# Altium footprint library TEST.PcbLib: 20 footprints (part 1 of 2)
Each footprint in its own frame and in the unit in brackets; x right, y up, seen from the top. Pads: shape width x height; smd on the part's side, far side on the other; paste and mask are expansions set on the pad; w line width, h text height; cw(c..) or ccw(c..) is an arc to the next point about the centre after c.
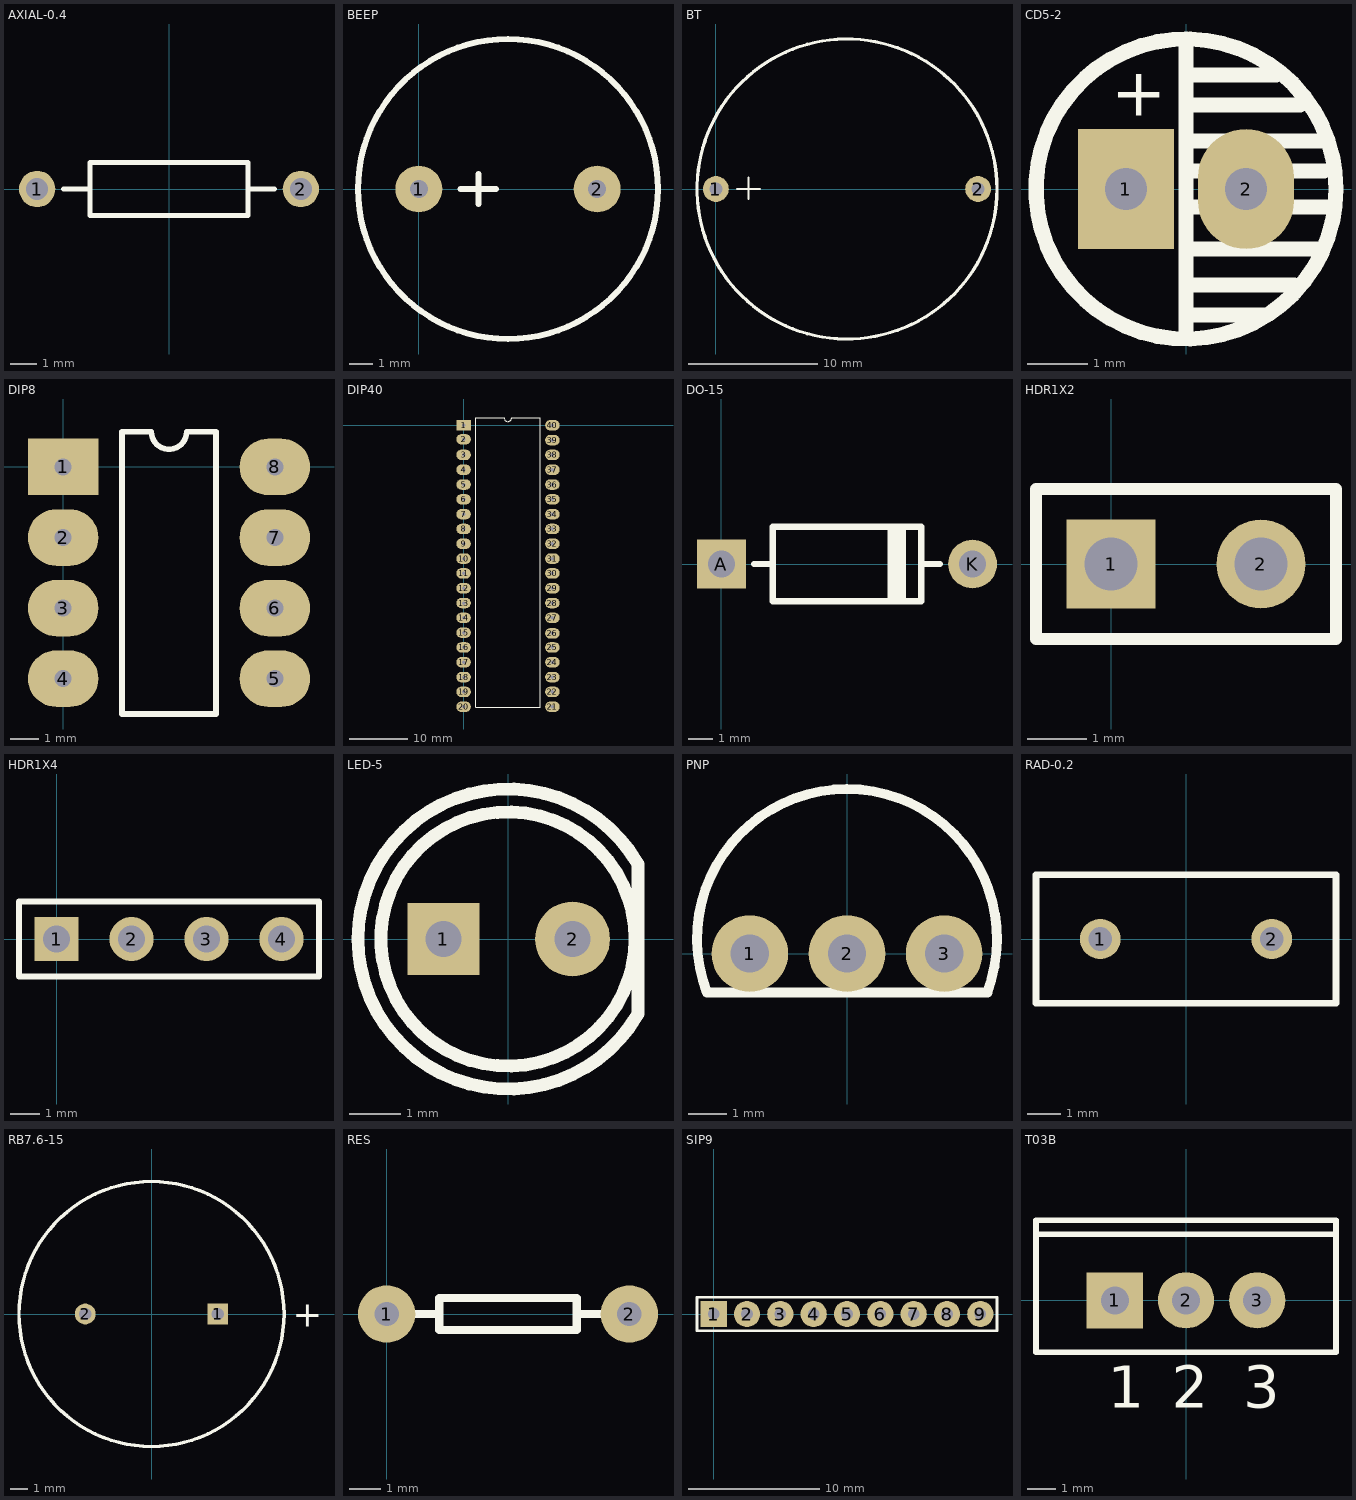
[diagram p0: the footprints below, top view; thin cyan lines are the x and y axes]

## AXIAL-0.4 [mm]
height 2.032
pads (2):
  round 1.4 hole 0.85: 1(-5.08,0) 2(5.08,0)
Top Overlay:
  lines w0.2: -4.064,0 -3.048,0 ; 3.048,0 4.064,0 ; -3.048,-1.016 -3.048,1.016 3.048,1.016 3.048,-1.016 -3.048,-1.016

## BEEP [mm]
height 4.96
pads (2):
  round 2 hole 0.762: 1(0,0) 2(7.62,0)
Top Overlay:
  circle w0.254: c3.81,0 r6.411
  lines w0.254: 1.778,0 3.302,0 ; 2.54,-0.635 2.54,0.635

## BT [mm]
height 4.96
pads (2):
  round 2 hole 1: 1(0,0) 2(20.32,0)
Top Overlay:
  circle w0.254: c10.16,0 r11.624
  lines w0.152: 1.651,0 3.429,0 ; 2.54,-0.762 2.54,0.889

## CD5-2 [mm]
pads (2):
  rect 1.6x2 hole 0.7: 1(-1,0)
  oval 1.6x2 hole 0.7: 2(1,0)
Top Overlay:
  circle w0.254: c0,0 r2.5
  lines w0.254: 0,-2.4 0,2.5 ; 0,-2.1 1.3,-2.1 ; 0,-1.6 1.8,-1.6 ; 0,-1 2.2,-1 ; 0,-0.3 2.4,-0.3 ; 0,1.4 1.9,1.4 ; 0,1.9 1.5,1.9 ; 0.1,0.3 2.3,0.3 ; 0.15,0.8 2.3,0.8
  text "+" at -1.246,1.221 h0.8

## DIP8 [mm]
height 4.96
pads (8):
  rect 2.5x2 hole 0.6: 1(0,0)
  oval 2.5x2 hole 0.6: 2(0,-2.5) 3(0,-5) 4(0,-7.5) 5(7.5,-7.5) 6(7.5,-5) 7(7.5,-2.5) 8(7.5,0)
Top Overlay:
  lines w0.2: 2.085,-8.75 2.085,1.25 3.125,1.25 ccw(c3.75,1.25) 4.375,1.25 5.415,1.25 5.415,-8.75 2.085,-8.75

## DIP40 [mm]
height 4.96
pads (40):
  rect 2.5x1.8 / inner round 1.524 / far side round 1.524 hole 0.6: 1(0,0)
  oval 2.5x1.8 / inner round 1.524 / far side round 1.524 hole 0.6: 2(0,-2.413) 3(0,-5.08) 4(0,-7.62) 5(0,-10.16) 6(0,-12.7) 7(0,-15.24) 8(0,-17.78) 9(0,-20.32) 10(0,-22.86) 11(0,-25.4) 12(0,-27.94) 13(0,-30.48) 14(0,-33.02) 15(0,-35.56) 16(0,-38.1) 17(0,-40.64) 18(0,-43.18) 19(0,-45.72) 20(0,-48.26) 21(15.24,-48.26) 22(15.24,-45.72) 23(15.24,-43.18) 24(15.24,-40.64) 25(15.24,-38.1) 26(15.24,-35.687) 27(15.24,-33.02) 28(15.24,-30.48) 29(15.24,-27.94) 30(15.24,-25.4) 31(15.24,-22.86) 32(15.24,-20.32) 33(15.24,-17.78) 34(15.24,-15.24) 35(15.24,-12.7) 36(15.24,-10.16) 37(15.24,-7.62) 38(15.24,-5.08) 39(15.24,-2.54) 40(15.24,0)
Top Overlay:
  lines w0.2: 2.085,-48.387 2.085,1.29 6.955,1.29 ccw(c7.6,1.29) 8.245,1.29 13.115,1.29 13.115,-48.387 2.085,-48.387

## DO-15 [mm]
pads (2):
  rect 2x2 hole 1.1: A(0,0)
  round 2 hole 1.1: K(10.3,0)
Top Overlay:
  lines w0.254: 1.34,0 2.102,0 ; 6.928,-1.524 6.928,1.524 ; 7.182,-1.524 7.182,1.524 ; 7.436,-1.524 7.436,1.524 ; 8.198,0 8.96,0 ; 2.102,-1.524 8.198,-1.524 8.198,1.524 2.102,1.524 2.102,-1.524
3D body: height 3.35, standoff -3.45, extent -0.343,-1.651 10.757,1.651

## HDR1X2 [mm]
pads (2):
  rect 1.5x1.5 hole 0.9: 1(0,0)
  round 1.5 hole 0.9: 2(2.54,0)
Top Overlay:
  lines w0.2: -1.27,-1.27 3.81,-1.27 3.81,1.27 -1.27,1.27 -1.27,-1.27

## HDR1X4 [mm]
pads (4):
  rect 1.5x1.5 hole 0.9: 1(0,0)
  round 1.5 hole 0.9: 2(2.54,0) 3(5.08,0) 4(7.62,0)
Top Overlay:
  lines w0.2: -1.27,-1.27 -1.27,1.27 8.89,1.27 8.89,-1.27 -1.27,-1.27

## LED-5 [mil]
pads (2):
  rect 56x56 hole 28: 1(-50,0)
  round 58 hole 28: 2(50,0)
Top Overlay:
  circle w10: c0,0 r98.43
  lines w10: 100.58,-58.07 cw(c0,0) 100.58,58.07 100.58,-58.07

## PNP [mm]
height 4.96
pads (3):
  round 2 hole 1: 1(-2.54,0) 2(0,0) 3(2.54,0)
Top Overlay:
  lines w0.254: 3.666,-1.009 ccw(c0,0.381) -3.664,-1.015 3.682,-1.015

## RAD-0.2 [mm]
pads (2):
  round 1.2 hole 0.7: 1(-2.54,0) 2(2.54,0)
Top Overlay:
  lines w0.2: -4.445,-1.905 -4.445,1.905 4.445,1.905 4.445,-1.905 -4.445,-1.905

## RB7.6-15 [mm]
pads (2):
  rect 1.2x1.2 hole 0.7: 1(3.81,0)
  round 1.2 hole 0.7: 2(-3.81,0)
Top Overlay:
  circle w0.2: c0,0 r7.62
  text "+" at 8.132,-0.737 h1.5

## RES [mm]
height 4.96
pads (2):
  round 1.8 hole 0.762: 1(0,0) 2(7.62,0)
Top Overlay:
  lines w0.254: -0.127,0 1.524,0 ; 5.969,0 7.62,0 ; 1.651,-0.508 1.651,0.508 5.969,0.508 5.969,-0.508 1.651,-0.508

## SIP9 [mm]
height 4.96
pads (9):
  rect 2x2 hole 0.9: 1(0,0)
  round 2 hole 0.9: 2(2.54,0) 3(5.08,0) 4(7.62,0) 5(10.16,0) 6(12.7,0) 7(15.24,0) 8(17.78,0) 9(20.32,0)
Top Overlay:
  lines w0.2: -1.27,-1.27 21.59,-1.27 21.59,1.27 -1.27,1.27 -1.27,-1.27

## T03B [mm]
height 4.96
pads (3):
  rect 2x2 hole 1: 1(-2.54,0)
  round 2 hole 1: 2(0,0) 3(2.54,0)
Top Overlay:
  lines w0.2: -5.35,2.35 5.35,2.35 ; -5.35,-1.85 5.35,-1.85 5.35,2.85 -5.35,2.85 -5.35,-1.85
  text "2" at -0.5,-3.825 h1.5
  text "1" at -2.79,-3.825 h1.5
  text "3" at 2.04,-3.825 h1.5